# Altium schematic symbol library SCH - BJT - MCCSEMI NPN SOT-23-3.SchLib: 1 symbol
Pins are listed as number, name and electrical type; pins without a type are passive.

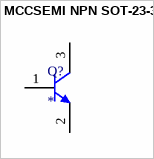
[diagram p0: symbol MCCSEMI NPN SOT-23-3]

## MCCSEMI NPN SOT-23-3
designator Q?
pins: 1 B, 2 E, 3 C